# EAGLE library part 645006114822 (library WR-WTB)
WR-WTB 3.96 mm Male Vertical Locking Header Material Properties Insulator Material PA66 Insulator Flammability Rating UL94 V-2 Color White Contact Material Copper Alloy Contact Plating Tin Contact Type Stamped Certification UL Approval E323964 General Information Operating Temperature -40 °C up to +105 °C Compliance RoHS IR 7 A Working Voltage 250 V (AC) Withstanding Voltage 1500 V (AC) Contact Resistance 20 mΩ RISO 1000 MΩ Pitch 3.96 mm Gender Male Type Vertical Packaging Properties Packaging Bag Details see: www.we-online.com/en/components/products/WTB_3_96_MALE_LOCKING_HEADER_6450XX114822 Updated by Ella 2025-03-06 2025 (C) Würth Elektronik
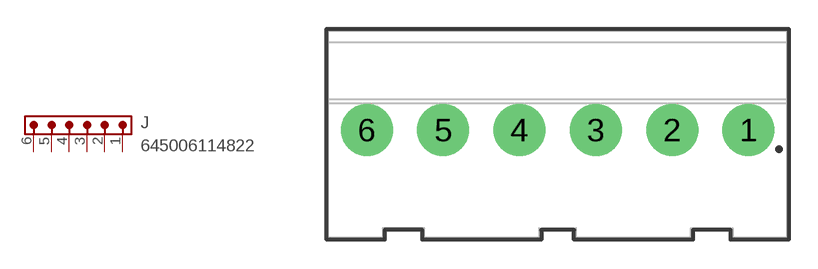
[diagram p117: symbol with the pads of 645006114822; footprint 645006114822]

Designator prefix J

## 645006114822 (CONTACT-RESISTANCE: 20mOhm; DATASHEET: https://www.we-online.com/redexpert/spec/645006114822?ae; GENDER: Male; IR: 7A; L: 23.76mm; MOUNT: THT; PACKAGING: Bag; PART-NUMBER: 645006114822; PCB-CABLE-PANEL: PCB; PINS: 6; PITCH: 3.96mm; TYPE: Vertical; VALUE: 645006114822; WORKING-VOLTAGE: 250V(AC))  [645006114822]
1  1  pas
2  2  pas
3  3  pas
4  4  pas
5  5  pas
6  6  pas

## Footprint 645006114822 (pad centres in mm)
WR-WTB 3.96 mm Male Vertical Locking Header, 6 Pins
drill 1.8: 1 9.9,0.5; 2 5.94,0.5; 3 1.98,0.5; 4 -1.98,0.5; 5 -5.94,0.5; 6 -9.9,0.5